# Altium schematic symbol library 电源类.SchLib: 12 symbols
Pins are listed as number, name and electrical type; pins without a type are passive.

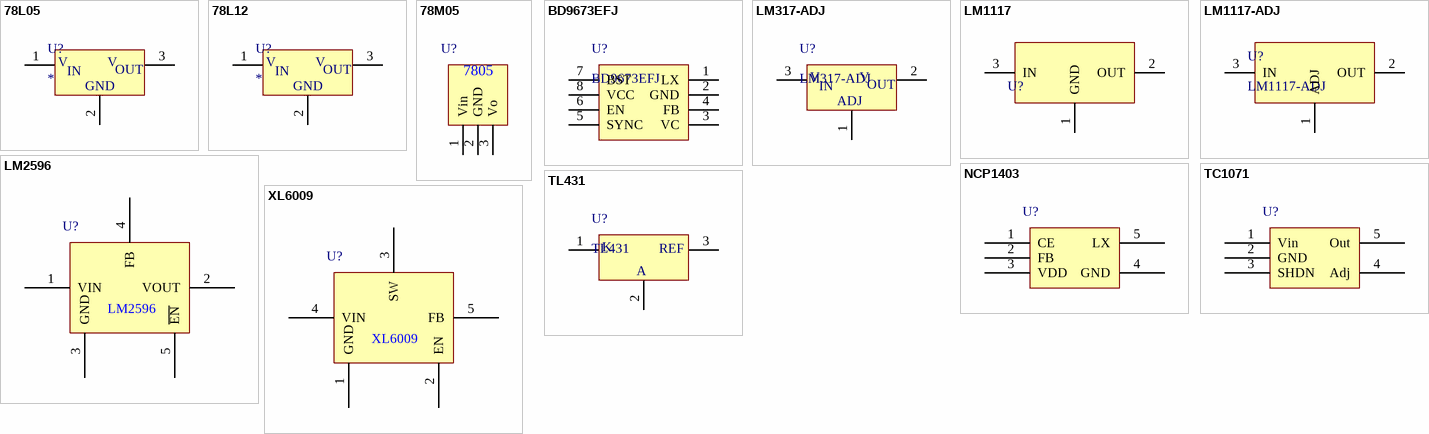
[diagram p0: symbols 78L05 to XL6009]

## 78L05
designator U?
78L05
footprint 78XX
pins: 1 VIN, 2 GND, 3 VOUT
text: V; IN; OUT

## 78L12
designator U?
7812
footprint 78XX
pins: 1 VIN, 2 GND, 3 VOUT
text: V; IN; OUT

## 78M05
designator U?  (value not drawn)
7805-SMD
footprint 78XX-SMD
pins: 1 Vin, 2 GND, 3 Vo
text: 7805

## BD9673EFJ
designator U?
ROHM
footprint SOIC-8
pins: 1 LX, 2 GND, 3 VC, 4 FB, 5 SYNC, 6 EN, 7 BST, 8 VCC

## LM317-ADJ
designator U?
footprint 78XX
pins: 1 ADJ, 2 VOUT, 3 VIN
text: V; IN; OUT

## LM1117
designator U?  (value not drawn)
TI
footprint 1117
pins: 1 GND, 2 OUT, 3 IN

## LM1117-ADJ
designator U?
TI
footprint 1117
pins: 1 ADJ, 2 OUT, 3 IN

## LM2596
designator U?  (value not drawn)
DCDC
footprint TO-263-5
pins: 1 VIN, 2 VOUT, 3 GND, 4 FB, 5 ~{EN}

## NCP1403
designator U?  (value not drawn)
DC-DC
footprint SOT-23-05N
pins: 1 CE, 2 FB, 3 VDD, 4 GND, 5 LX

## TC1071
designator U?  (value not drawn)
DC-DC
footprint SOT-23-05N
pins: 1 Vin, 2 GND, 3 SHDN, 4 Adj, 5 Out

## TL431
designator U?
footprint TO-92D
pins: 1 C, 2 A, 3 REF
text: K

## XL6009
designator U?  (value not drawn)
DC-DC
footprint TO-263-5
pins: 1 GND, 2 EN, 3 SW, 4 VIN, 5 FB